# Altium footprint library 杂项库.PcbLib: 585 footprints (part 29 of 37)
Each footprint in its own frame and in the unit in brackets; x right, y up, seen from the top. Pads: shape width x height; smd on the part's side, far side on the other; paste and mask are expansions set on the pad; w line width, h text height; cw(c..) or ccw(c..) is an arc to the next point about the centre after c.
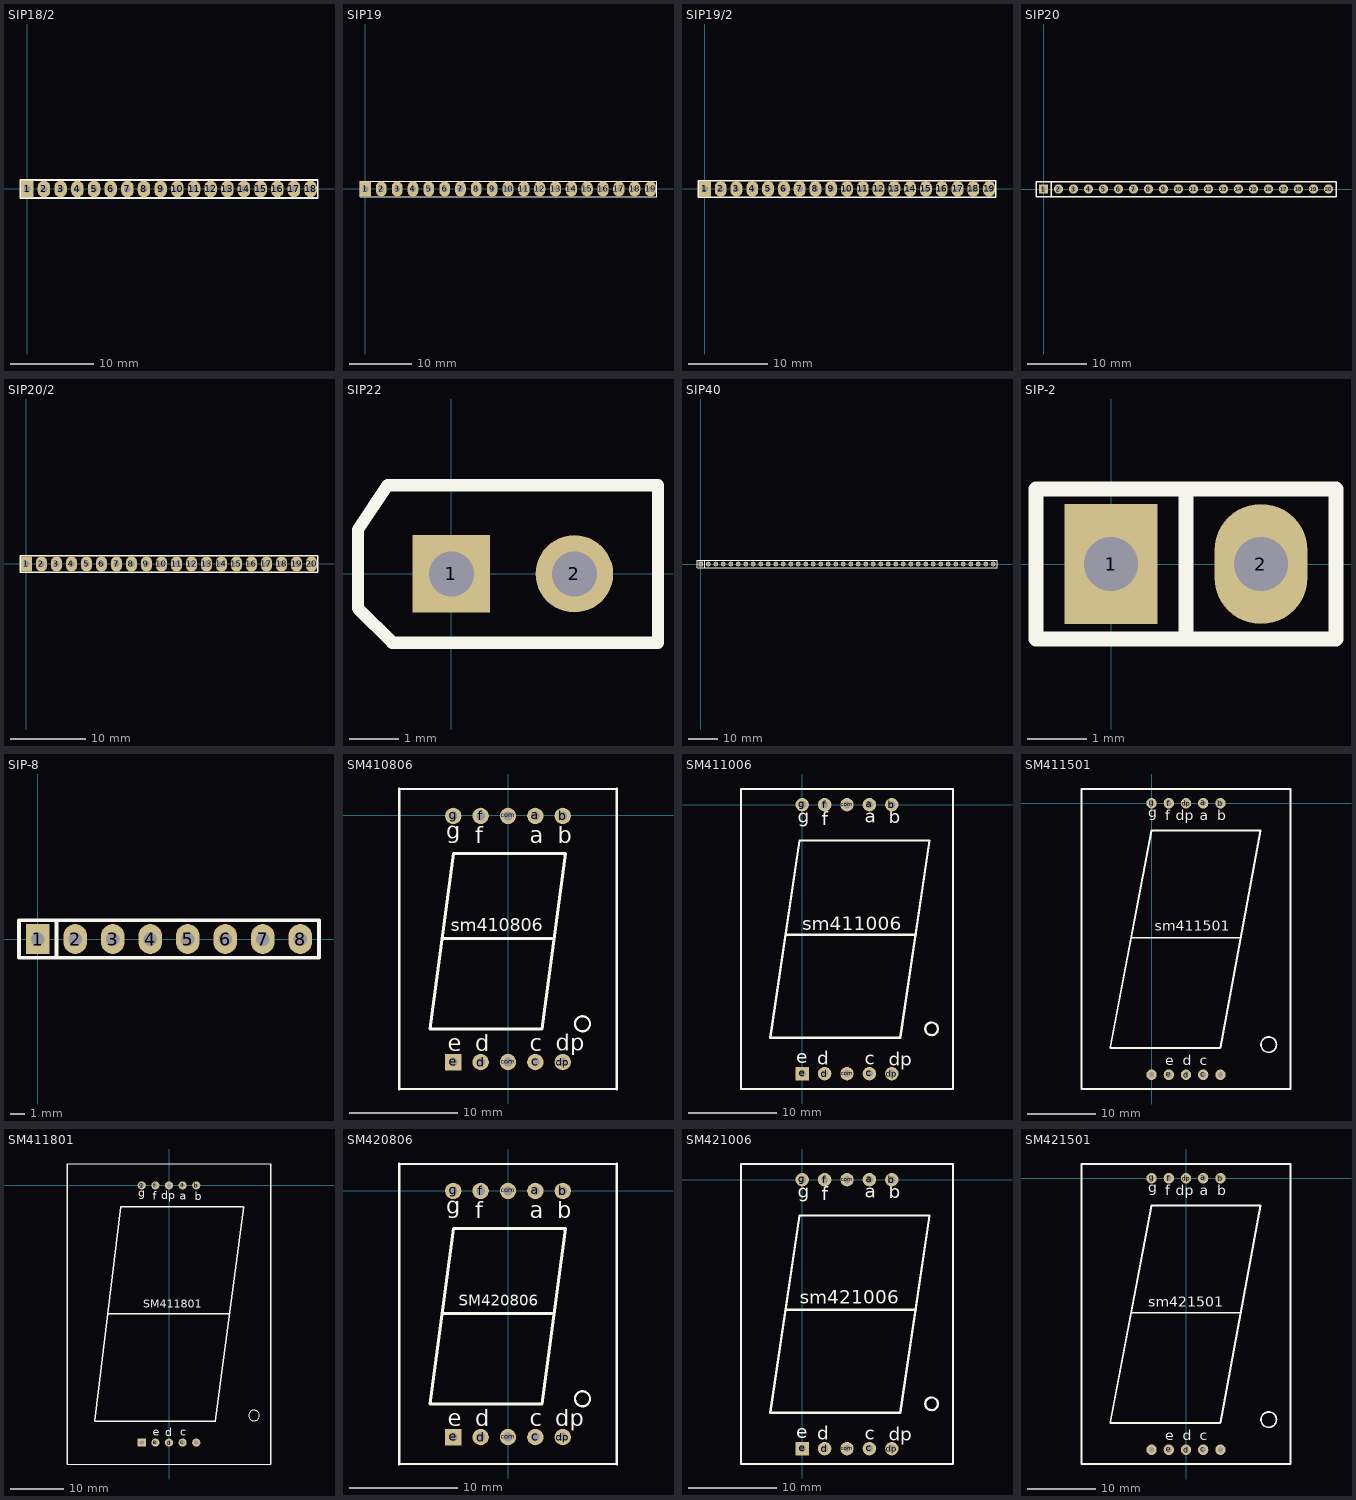
[diagram p28: the footprints below, top view; thin cyan lines are the x and y axes]

## SIP18/2 [mm]
pads (18):
  rect 1.5x2 hole 0.8: 1(0,0)
  oval 1.5x2 hole 0.8: 2(2,0) 3(4,0) 4(6,0) 5(8,0) 6(10,0) 7(12,0) 8(14,0) 9(16,0) 10(18,0) 11(20,0) 12(22,0) 13(24,0) 14(26,0) 15(28,0) 16(30,0) 17(32,0) 18(34,0)
Top Overlay:
  lines w0.2: -0.865,-1.074 34.835,-1.074 34.835,1.066 -0.865,1.066 -0.865,-1.074

## SIP19 [mm]
pads (19):
  rect 1.7x2.4 hole 0.9: 1(0,0)
  oval 1.7x2.4 hole 0.9: 2(2.54,0) 3(5.08,0) 4(7.62,0) 5(10.16,0) 6(12.7,0) 7(15.24,0) 8(17.78,0) 9(20.32,0) 10(22.86,0)
  oval 1.8x2.4 hole 0.82: 11(25.4,0) 12(27.94,0) 13(30.48,0) 14(33.02,0) 15(35.56,0) 16(38.1,0) 17(40.64,0) 18(43.18,0) 19(45.72,0)
Top Overlay:
  lines w0.2: -0.865,-1.274 46.695,-1.274 46.695,1.266 -0.865,1.266 -0.865,-1.274

## SIP19/2 [mm]
pads (19):
  rect 1.5x2 hole 0.8: 1(0,0)
  oval 1.5x2 hole 0.8: 2(2,0) 3(4,0) 4(6,0) 5(8,0) 6(10,0) 7(12,0) 8(14,0) 9(16,0) 10(18,0) 11(20,0) 12(22,0) 13(24,0) 14(26,0) 15(28,0) 16(30,0) 17(32,0) 18(34,0) 19(36,0)
Top Overlay:
  lines w0.2: -0.865,-1.074 -0.865,1.066 36.835,1.066 36.835,-1.074 -0.865,-1.074

## SIP20 [mil]
pads (20):
  rect 62x62 hole 36: 1(0,0)
  round 62 hole 36: 2(100,0) 3(200,0) 4(300,0) 5(400,0) 6(500,0) 7(600,0) 8(700,0) 9(800,0) 10(900,0) 11(1000,0) 12(1100,0) 13(1200,0) 14(1300,0) 15(1400,0) 16(1500,0) 17(1600,0) 18(1700,0) 19(1800,0) 20(1900,0)
Top Overlay:
  lines w10: 50,-50 50,50 ; -50,-50 -50,50 1950,50 1950,-50 -50,-50

## SIP20/2 [mm]
pads (20):
  rect 1.5x2 hole 0.8: 1(0,0)
  oval 1.5x2 hole 0.8: 2(2,0) 3(4,0) 4(6,0) 5(8,0) 6(10,0) 7(12,0) 8(14,0) 9(16,0) 10(18,0) 11(20,0) 12(22,0) 13(24,0) 14(26,0) 15(28,0) 16(30,0) 17(32,0) 18(34,0) 19(36,0) 20(38,0)
Top Overlay:
  lines w0.2: -0.865,-1.074 -0.865,1.066 38.835,1.066 38.835,-1.074 -0.865,-1.074

## SIP22 [mil]
pads (2):
  rect 62x62 hole 36: 1(0,0)
  round 62 hole 36: 2(98.42,0)
Top Overlay:
  lines w10: -74.8,-27.56 -74.8,35.43 -51.18,70.87 165.35,70.87 165.35,-55.12 -47.24,-55.12 -74.8,-27.56

## SIP40 [mil]
pads (40):
  rect 62x62 hole 36: 1(0,0)
  round 62 hole 36: 2(100,0) 3(200,0) 4(300,0) 5(400,0) 6(500,0) 7(600,0) 8(700,0) 9(800,0) 10(900,0) 11(1000,0) 12(1100,0) 13(1200,0) 14(1300,0) 15(1400,0) 16(1500,0) 17(1600,0) 18(1700,0) 19(1800,0) 20(1900,0) 21(2000,0) 22(2100,0) 23(2200,0) 24(2300,0) 25(2400,0) 26(2500,0) 27(2600,0) 28(2700,0) 29(2800,0) 30(2900,0) 31(3000,0) 32(3100,0) 33(3200,0) 34(3300,0) 35(3400,0) 36(3500,0) 37(3600,0) 38(3700,0) 39(3800,0) 40(3900,0)
Top Overlay:
  lines w10: 50,-50 50,50 ; -50,-50 1950,-50 3950,-50 3950,50 1950,50 -50,50 -50,-50

## SIP-2 [mil]
pads (2):
  rect 62x80 hole 36: 1(0,0)
  oval 62x80 hole 36: 2(100,0)
Top Overlay:
  lines w10: 50,-50 50,50 ; -50,-50 150,-50 150,50 -50,50 -50,-50

## SIP-8 [mil]
pads (8):
  rect 62x80 hole 36: 1(0,0)
  oval 62x80 hole 36: 2(100,0) 3(200,0) 4(300,0) 5(400,0) 6(500,0) 7(600,0) 8(700,0)
Top Overlay:
  lines w10: 50,-50 50,50 ; -50,-50 750,-50 750,50 -50,50 -50,-50

## SM410806 [mil]
pads (10):
  round 60 hole 32: a(100,-3) b(200,-3) c(100,-903) com(0,-903) com(0,-3) d(-100,-903) dp(200,-903) f(-100,-3) g(-200,-3)
  rect 60x60 hole 32: e(-200,-903)
Top Overlay:
  circle w8: c272.44,-763 r27.56
  lines w8: -397.64,-1001.42 397.64,-1001.42 ; -397.64,95.42 397.64,95.42 ; -242.2,-447.37 -238.26,-451.31 ; 167.25,-451.31 171.19,-447.37
  lines w10: -397.64,-1001.42 -397.64,95.42 ; -238.26,-451.31 167.25,-451.31 ; 397.64,-1001.42 397.64,95.42 ; -285.5,-782.02 -198.89,-140.28 210.56,-140.28 123.94,-782.02 -285.5,-782.02
  text "d" at -120,-863 h60
  text "c" at 80,-863 h60
  text "dp" at 174,-861 h60
  text "e" at -220,-863 h60
  text "b" at 181,-103 h60
  text "a" at 80,-103 h60
  text "f" at -120,-103 h60
  text "g" at -225.87,-86.3 h60
  text "sm410806" at -210,-425 h47.24

## SM411006 [mil]
pads (10):
  round 60 hole 32: a(299.87,-0.44) b(399.87,-0.44) c(299.87,-1200.52) com(199.87,-1200.52) com(199.87,-0.44) d(99.87,-1200.52) dp(399.87,-1200.52) f(99.87,-0.44) g(-0.13,-0.44)
  rect 60x60 hole 32: e(-0.13,-1200.52)
Top Overlay:
  circle w10: c577.43,-1000.52 r28.28
  lines w10: -72.57,-580.52 507.43,-580.52 ; 199.87,69.48 -272.57,69.48 ; -272.57,69.48 672.32,69.48 ; -272.57,69.48 -272.57,-1269.1 672.32,-1269.1 ; 672.31,-1269.1 672.31,69.48 ; 672.32,-1269.1 672.32,69.48 ; -142.57,-1040.52 437.43,-1040.52 567.43,-160.52 -12.57,-160.52 -142.57,-1040.52
  text "e" at -26,-1154 h60
  text "g" at -20,-80 h60
  text "f" at 88,-92 h60
  text "a" at 280,-82 h60
  text "b" at 386,-84 h60
  text "dp" at 386,-1166 h60
  text "c" at 278,-1160 h60
  text "d" at 68,-1162 h60
  text "sm411006" at 0,-560 h60

## SM411501 [mil]
pads (10):
  round 60 hole 31.5: a(300,0) b(400,0) c(300,-1574.8) com(0,-1574.8) com(400,-1574.8) d(200,-1574.8) dp(200,0) e(100,-1574.8) f(100,0) g(0,0)
Top Overlay:
  circle w10: c680,-1400 r44.72
  lines w10: -240.07,-1417.32 0,-157.48 632.22,-157.48 400,-1417.32 ; -240,-1420 397.32,-1420 ; -112.99,-780 520,-780 ; -406.3,-1657.48 806.3,-1657.48 806.3,82.68 -406.3,82.68 -406.3,-1657.48
  text "sm411501" at 20,-740 h60
  text "b" at 380,-100 h60
  text "a" at 280,-100 h60
  text "dp" at 140,-100 h60
  text "e" at 80,-1520 h60
  text "d" at 180,-1520 h60
  text "c" at 280,-1520 h60
  text "g" at -20,-80 h60
  text "f" at 80,-100 h60

## SM411801 [mil]
pads (10):
  round 60 hole 32: a(100,0) b(200,0) c(100,-1889.76) com(200,-1889.76) d(0,-1889.76) dp(0,0) e(-100,-1889.76) f(-100,0) g(-200,0)
  rect 60x60 hole 32: com(-200,-1889.76)
Top Overlay:
  circle w8: c624.63,-1691 r39.37
  lines w8: -748.03,-2047.24 748.03,-2047.24 ; -748.03,157.48 748.03,157.48
  lines w10: -748.03,-2047.24 -748.03,157.48 ; -545,-1732.28 342.52,-1732.28 ; -545,-1728 -355.02,-157.48 544.2,-157.48 ; -451,-943 445,-943 ; 341.23,-1732.28 549,-157.48 ; 748.03,-2047.24 748.03,157.48
  text "g" at -226,-84 h60
  text "f" at -121,-105 h60
  text "a" at 78,-105 h60
  text "b" at 188,-110 h60
  text "e" at -121,-1838 h60
  text "dp" at -58,-100 h60
  text "c" at 83,-1838 h60
  text "d" at -27,-1843 h60
  text "SM411801" at -190,-900 h59.05

## SM420806 [mil]
pads (10):
  round 60 hole 32: a(100,0) b(200,0) c(100,-900) com(0,-900) com(0,0) d(-100,-900) dp(200,-900) f(-100,0) g(-200,0)
  rect 60x60 hole 32: e(-200,-900)
Top Overlay:
  circle w8: c272.44,-760 r27.56
  lines w8: -397.64,-998.42 397.64,-998.42 ; -397.64,98.42 397.64,98.42 ; -242.2,-444.37 -238.26,-448.31 ; 167.25,-448.31 171.19,-444.37
  lines w10: -397.64,-998.42 -397.64,98.42 ; -238.26,-448.31 167.25,-448.31 ; 397.64,-998.42 397.64,98.42 ; -285.5,-779.02 -198.89,-137.28 210.56,-137.28 123.94,-779.02 -285.5,-779.02
  text "d" at -120,-860 h60
  text "c" at 80,-860 h60
  text "dp" at 172,-861 h60
  text "e" at -220,-860 h60
  text "b" at 180,-100 h60
  text "a" at 80,-100 h60
  text "f" at -120,-100 h60
  text "g" at -225.87,-83.3 h60
  text "SM420806" at -180,-420 h40

## SM421006 [mil]
pads (10):
  round 60 hole 32: a(299.87,-0.44) b(399.87,-0.44) c(299.87,-1200.52) com(199.87,-1200.52) com(199.87,-0.44) d(99.87,-1200.52) dp(399.87,-1200.52) f(99.87,-0.44) g(-0.13,-0.44)
  rect 60x60 hole 32: e(-0.13,-1200.52)
Top Overlay:
  circle w10: c577.43,-1000.52 r28.28
  lines w10: -72.57,-580.52 507.43,-580.52 ; 199.87,69.48 -272.57,69.48 ; -272.57,69.48 -272.57,-1269.1 672.32,-1269.1 ; -272.57,69.48 672.32,69.48 ; 672.32,-1269.1 672.32,69.48 ; 672.31,-1269.1 672.31,69.48 ; -142.57,-1040.52 -12.57,-160.52 567.43,-160.52 437.43,-1040.52 -142.57,-1040.52
  text "sm421006" at -10,-555 h60
  text "d" at 68,-1162 h60
  text "c" at 278,-1160 h60
  text "dp" at 386,-1166 h60
  text "b" at 386,-84 h60
  text "a" at 280,-82 h60
  text "f" at 88,-92 h60
  text "g" at -20,-80 h60
  text "e" at -26,-1154 h60

## SM421501 [mil]
pads (10):
  round 60 hole 31.5: a(100,0) b(200,0) c(100,-1574.8) com(-200,-1574.8) com(200,-1574.8) d(0,-1574.8) dp(0,0) e(-100,-1574.8) f(-100,0) g(-200,0)
Top Overlay:
  circle w10: c480,-1400 r44.72
  lines w10: -440.07,-1417.32 -200,-157.48 432.22,-157.48 200,-1417.32 ; -440,-1420 197.32,-1420 ; -312.99,-780 320,-780 ; -606.3,-1657.48 -606.3,82.68 606.3,82.68 606.3,-1657.48 -606.3,-1657.48
  text "sm421501" at -220,-745 h60
  text "f" at -120,-100 h60
  text "g" at -220,-80 h60
  text "c" at 80,-1520 h60
  text "d" at -20,-1520 h60
  text "e" at -120,-1520 h60
  text "dp" at -60,-100 h60
  text "a" at 80,-100 h60
  text "b" at 180,-100 h60